# EAGLE library part USBA-DOUBLE (library Strutz Electronic Industries)
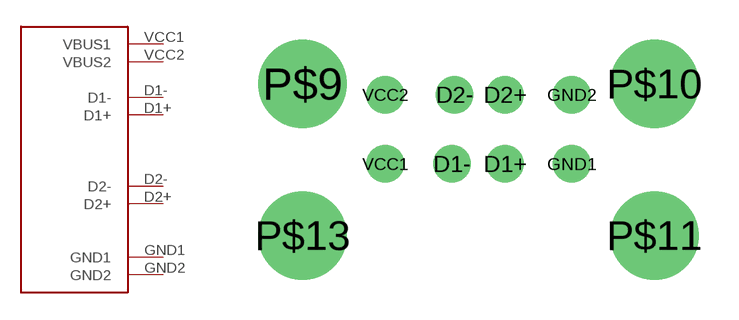
[diagram p6: symbol with the pads of USBA-DOUBLE; footprint USBA-DOUBLE]

Designator prefix -

## USBA-DOUBLE  [USBA-DOUBLE]
D1+  D1+
D1-  D1-
D2+  D2+
D2-  D2-
GND1  GND1
GND2  GND2
VCC1  VBUS1
VCC2  VBUS2

## Footprint USBA-DOUBLE (pad centres in mm)
drill 0.9: D1+ 1,-1.3; D1- -1,-1.3; D2+ 1,1.3; D2- -0.9,1.3; GND1 3.5,-1.3; GND2 3.5,1.3; VCC1 -3.5,-1.3; VCC2 -3.5,1.3
drill 2.3: P$9 -6.6,1.7; P$10 6.6,1.7; P$11 6.6,-4; P$13 -6.6,-4